# Altium footprint library THU_VIEN_1.PcbLib: 76 footprints (part 2 of 5)
Each footprint in its own frame and in the unit in brackets; x right, y up, seen from the top. Pads: shape width x height; smd on the part's side, far side on the other; paste and mask are expansions set on the pad; w line width, h text height; cw(c..) or ccw(c..) is an arc to the next point about the centre after c.
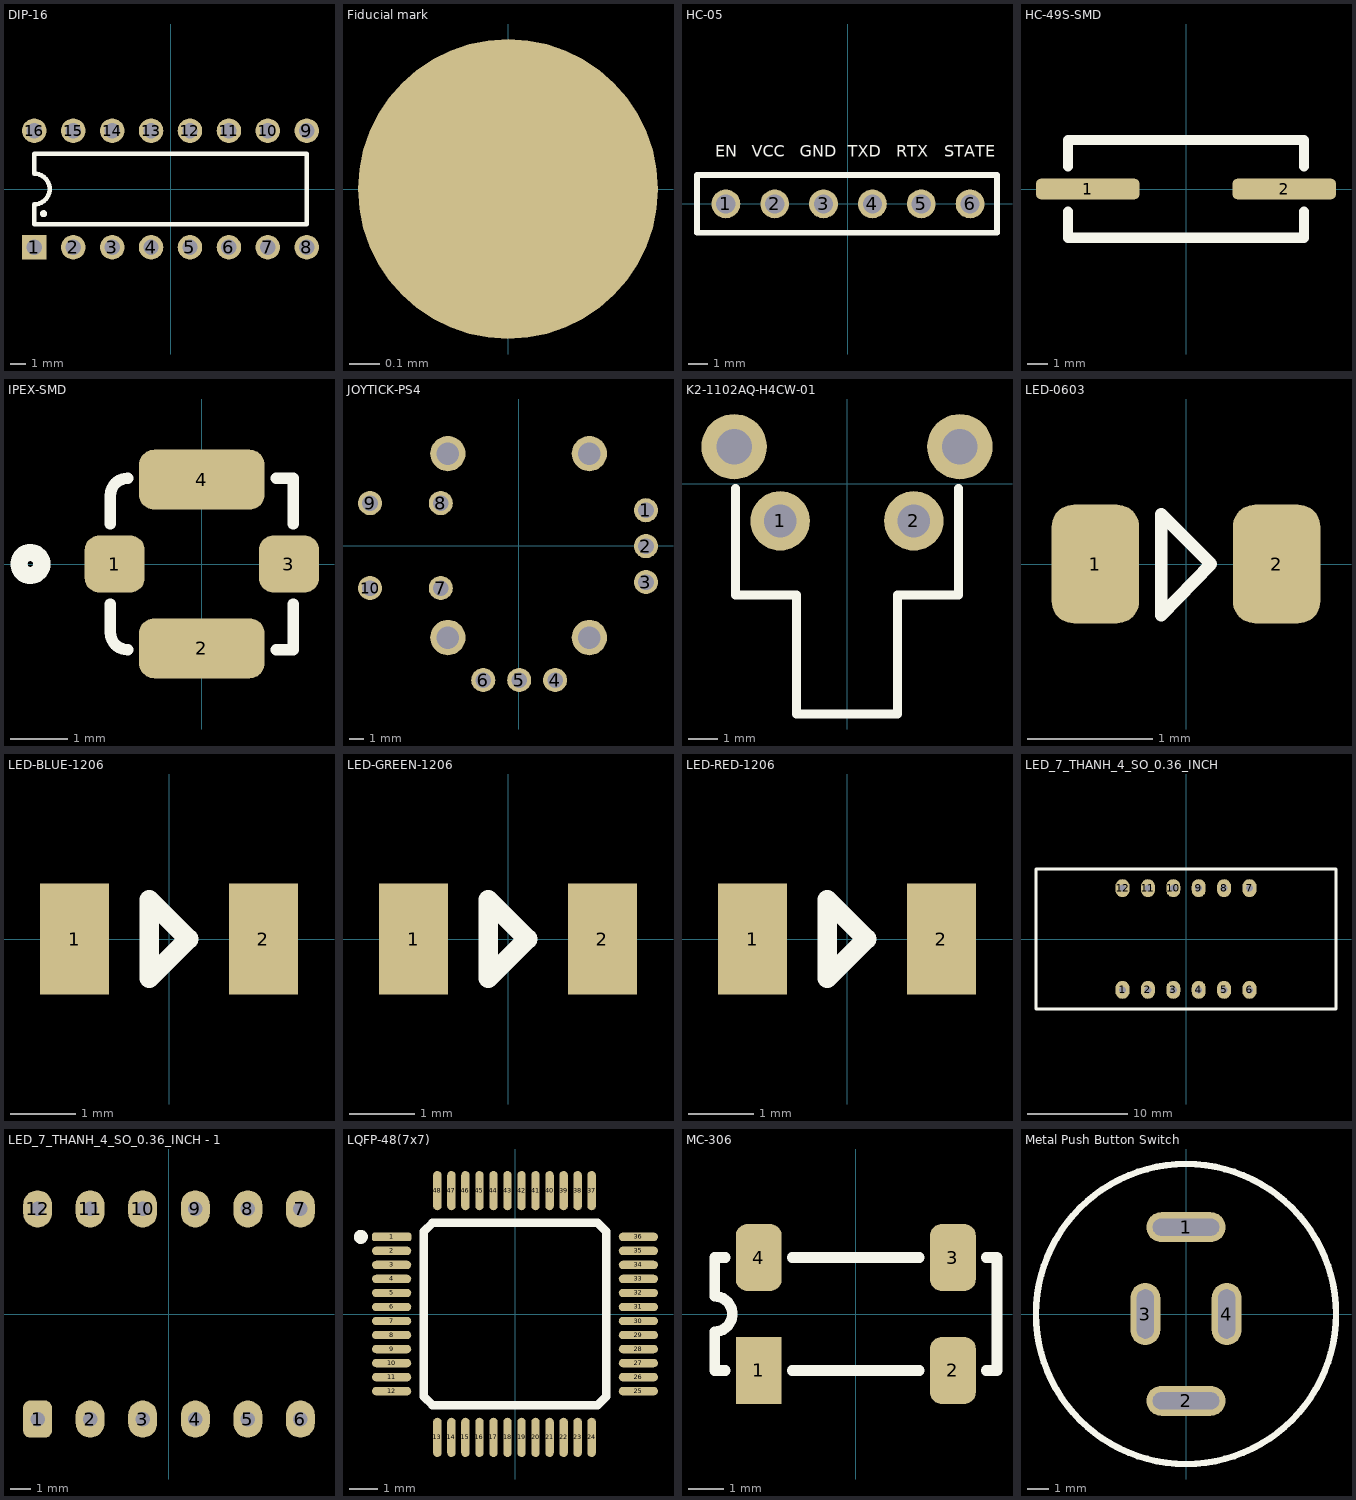
[diagram p1: the footprints below, top view; thin cyan lines are the x and y axes]

## DIP-16 [mm]
pads (16):
  rect 1.6x1.6 hole 1 mask+0.1: 1(-8.89,-3.81)
  round 1.6 hole 1 mask+0.1: 2(-6.35,-3.81) 3(-3.81,-3.81) 4(-1.27,-3.81) 5(1.27,-3.81) 6(3.81,-3.81) 7(6.35,-3.81) 8(8.89,-3.81) 9(8.89,3.81) 10(6.35,3.81) 11(3.81,3.81) 12(1.27,3.81) 13(-1.27,3.81) 14(-3.81,3.81) 15(-6.35,3.81) 16(-8.89,3.81)
Top Overlay:
  circle w0.254: c-8.29,-1.61 r0.1
  lines w0.3: -8.89,-2.31 -3.81,-2.31 6.61,-2.31 8.89,-2.31 8.89,2.31 -8.89,2.31 -8.89,1 cw(c-8.89,0) -8.89,-1 -8.89,-2.31
3D body "CircuitWorks-DIP 16 IC.STEP": height 5.1, standoff -3.3, extent -10,-3.935 10,3.935

## Fiducial mark [mm]
pads (1):
  round 1 smd paste-0.5 mask+0.5: ""(0,0)

## HC-05 [mm]
pads (6):
  round 1.5 hole 1: 1(-6.35,0) 2(-3.81,0) 3(-1.27,0) 4(1.27,0) 5(3.81,0) 6(6.35,0)
Top Overlay:
  lines w0.3: -7.85,-1.5 7.75,-1.5 7.75,1.5 -7.85,1.5 -7.85,-1.5
  text "STATE" at 5,2.45 h0.6
  text "RTX" at 2.5,2.45 h0.6
  text "TXD" at 0,2.45 h0.6
  text "GND" at -2.5,2.45 h0.6
  text "VCC" at -5,2.45 h0.6
  text "EN" at -6.9,2.45 h0.6
3D body "User Library-hc05.STEP": height 5.9, standoff 0, extent -8.1,-7 8,35.6

## HC-49S-SMD [mm]
pads (2):
  rrect50% 5x1 smd mask+0.1: 1(-4.75,0) 2(4.75,0)
Top Overlay:
  lines w0.5: -5.7,-1.1 -5.7,-2.35 5.7,-2.35 5.7,-1.1 ; -5.7,1.1 -5.7,2.37 5.7,2.37 5.7,1.1
3D body "Crystal 49SMT H4,3mm.stp": height 4.3, standoff 0, extent -6.4,-2.415 6.4,2.415

## IPEX-SMD [mm]
pads (4):
  rrect50% 1.05x1 smd: 1(-1.525,0) 3(1.525,0)
  rrect50% 2.2x1.05 smd: 2(0,-1.475) 4(0,1.475)
Top Overlay:
  circle w0.3: c-3,0 r0.2
  lines w0.2: -1.6,-0.7 -1.6,-1.2 ccw(c-1.3,-1.2) -1.3,-1.5 ; -1.6,0.7 -1.6,1.2 cw(c-1.3,1.2) -1.3,1.5 ; 1.3,-1.5 1.6,-1.5 1.6,-0.7 ; 1.3,1.5 1.6,1.5 1.6,0.7
3D body "u.Fl Antenna Connector - 523-A-1JB.STEP": height 1.25, standoff 0, extent -1.55,-1.525 1.55,1.475

## JOYTICK-PS4 [mm]
pads (14):
  round 1.7 hole 1.1: 1(9,2.5) 2(9,-0.04) 3(9,-2.58) 4(2.58,-9.5) 5(0.04,-9.5) 6(-2.5,-9.5) 7(-5.5,-3) 8(-5.5,3) 9(-10.5,3) 10(-10.5,-3)
  round 2.5 hole 1.6: ""(-5,-6.5) ""(-5,6.5) ""(5,-6.5) ""(5,6.5)

## K2-1102AQ-H4CW-01 [mm]
pads (4):
  round 2 hole 1.1 mask+0.1: 1(-2.25,-1.25) 2(2.25,-1.25)
  round 2.2 hole 1.2 mask+0.1: ""(-3.8,1.25) ""(3.8,1.25)
Top Overlay:
  lines w0.3: -3.75,-0.15 -3.75,-3.75 -1.7,-3.75 -1.7,-7.75 1.7,-7.75 1.7,-3.779 ; 1.7,-3.75 3.7,-3.75 ; 3.75,-3.75 3.75,-0.15

## LED-0603 [mm]
pads (2):
  rrect50% 0.7x0.95 smd paste-0.1: 1(-0.725,0) 2(0.725,0)
Top Overlay:
  lines w0.1: -0.2,-0.412 0.2,0 -0.2,0.4 -0.2,-0.4 ; -0.2,-0.4 -0.2,-0.4
3D body "User Library-LED SMD0603.STEP": height 0.68, standoff 0, extent -0.825,-0.35 0.825,0.375

## LED-BLUE-1206 [mm]
pads (2):
  rect 1.05x1.7 smd: 1(-1.445,0) 2(1.445,0)
Top Overlay:
  lines w0.3: -0.3,-0.6 -0.3,0.6 0.3,0 -0.3,-0.6
3D body "LED_1206_Blue.stp": height 0.9, standoff 0, extent -1.638,-0.825 1.632,0.825

## LED-GREEN-1206 [mm]
pads (2):
  rect 1.05x1.7 smd: 1(-1.445,0) 2(1.445,0)
Top Overlay:
  lines w0.3: -0.3,-0.6 -0.3,0.6 0.3,0 -0.3,-0.6
3D body "LED_1206_Green.stp": height 0.9, standoff 0, extent -1.638,-0.825 1.632,0.825

## LED-RED-1206 [mm]
pads (2):
  rect 1.05x1.7 smd: 1(-1.445,0) 2(1.445,0)
Top Overlay:
  lines w0.3: -0.3,-0.6 -0.3,0.6 0.3,0 -0.3,-0.6
3D body "LED_1206_Red.stp": height 0.9, standoff 0, extent -1.638,-0.825 1.632,0.825

## LED_7_THANH_4_SO_0.36_INCH [mm]
pads (12):
  oval 1.4x1.8 hole 0.7 mask+0.1: 1(-6.35,-5.08) 2(-3.81,-5.08) 3(-1.27,-5.08) 4(1.27,-5.08) 5(3.81,-5.08) 6(6.35,-5.08) 7(6.35,5.08) 8(3.81,5.08) 9(1.27,5.08) 10(-1.27,5.08) 11(-3.81,5.08) 12(-6.35,5.08)
Top Overlay:
  lines w0.3: -15,-7 -15,7 15,7 15,0 15,-7 -15,-7
3D body "User Library-IND 3641 RED.STEP": height 7.21, standoff -6.7, extent -15,-7 15,7

## LED_7_THANH_4_SO_0.36_INCH - 1 [mm]
pads (12):
  rrect50% 1.4x1.8 hole 0.7 mask+0.1: 1(-6.35,-5.08)
  oval 1.4x1.8 hole 0.7 mask+0.1: 2(-3.81,-5.08) 3(-1.27,-5.08) 4(1.27,-5.08) 5(3.81,-5.08) 6(6.35,-5.08) 7(6.35,5.08) 8(3.81,5.08) 9(1.27,5.08) 10(-1.27,5.08) 11(-3.81,5.08) 12(-6.35,5.08)
3D body "User Library-IND 3641 RED.STEP": height 7.21, standoff -6.7, extent -15,-7 15,7

## LQFP-48(7x7) [mm]
pads (48):
  rrect50% 1.4x0.3 smd: 1(-4.4,2.75)
  oval 1.4x0.3 smd: 2(-4.4,2.25) 3(-4.4,1.75) 4(-4.4,1.25) 5(-4.4,0.75) 6(-4.4,0.25) 7(-4.4,-0.25) 8(-4.4,-0.75) 9(-4.4,-1.25) 10(-4.4,-1.75) 11(-4.4,-2.25) 12(-4.4,-2.75) 25(4.4,-2.75) 26(4.4,-2.25) 27(4.4,-1.75) 28(4.4,-1.25) 29(4.4,-0.75) 30(4.4,-0.25) 31(4.4,0.25) 32(4.4,0.75) 33(4.4,1.25) 34(4.4,1.75) 35(4.4,2.25) 36(4.4,2.75)
  oval 0.3x1.4 smd: 13(-2.768,-4.4) 14(-2.268,-4.4) 15(-1.768,-4.4) 16(-1.268,-4.4) 17(-0.768,-4.4) 18(-0.268,-4.4) 19(0.232,-4.4) 20(0.732,-4.4) 21(1.232,-4.4) 22(1.732,-4.4) 23(2.232,-4.4) 24(2.732,-4.4) 37(2.732,4.4) 38(2.232,4.4) 39(1.732,4.4) 40(1.232,4.4) 41(0.732,4.4) 42(0.232,4.4) 43(-0.268,4.4) 44(-0.768,4.4) 45(-1.268,4.4) 46(-1.768,4.4) 47(-2.268,4.4) 48(-2.768,4.4)
Top Overlay:
  circle w0.3: c-5.5,2.75 r0.1
  lines w0.3: -3.25,-2.95 -2.95,-3.25 2.95,-3.25 3.25,-2.95 3.25,2.95 2.95,3.25 -2.95,3.25 -3.25,2.95 -3.25,-2.95
3D body "User Library-LQFP48_Grid_0_5.STEP": height 1.6, standoff 0, extent -4.5,-4.5 4.5,4.5

## MC-306 [mm]
pads (4):
  rect 1.3x1.9 smd: 1(-2.75,-1.6)
  rrect50% 1.3x1.9 smd: 2(2.75,-1.6) 3(2.75,1.6) 4(-2.75,1.6)
Top Overlay:
  lines w0.3: -3.7,-1.6 -4,-1.6 -4,-0.5 ccw(c-4,0) -4,0.5 -4,1.6 -3.7,1.6 ; -1.8,-1.6 -1.6,-1.6 1.6,-1.6 1.8,-1.6 ; -1.8,1.6 -1.6,1.6 1.6,1.6 1.8,1.6 ; 3.7,-1.6 4,-1.6 4,1.6 3.7,1.6
3D body "ABRACON_ABS25-32.768KHZ-6-T.STEP": height 2.66, standoff 0, extent -4,-2 4,2

## Metal Push Button Switch [mm]
pads (4):
  oval 3.7x1.4 hole 0.8 slot 3.1 at 0 deg: 1(0,4.05) 2(0,-4.05)
  oval 1.4x2.9 hole 0.8 slot 2.3 at 90 deg: 3(-1.9,0) 4(1.9,0)
Top Overlay:
  circle w0.3: c0,0 r7